# EAGLE library part OPT3001 (library OPT3001)
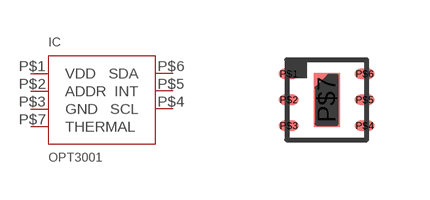
[diagram p0: symbol with the pads of USON6; footprint USON6]

Designator prefix IC

## OPT3001_USON6  [USON6]
P$1  VDD  pwr
P$2  ADDR
P$3  GND
P$4  SCL
P$5  INT
P$6  SDA
P$7  THERMAL

## Footprint USON6 (pad centres in mm)
smd 0.5 x 0.25: P$1 -0.95,0.65; P$2 -0.95,0; P$3 -0.95,-0.65; P$4 0.95,-0.65; P$5 0.95,0; P$6 0.95,0.65
smd 0.65 x 1.35: P$7 0,0